# Altium schematic symbol library Unpolarised Capacitor.SchLib: 1 symbol
Pins are listed as number, name and electrical type; pins without a type are passive.

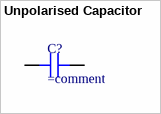
[diagram p0: symbol Unpolarised Capacitor]

## Unpolarised Capacitor
designator C?
pins: 1, 2